# EAGLE library part MAX4642EUA (library analog)
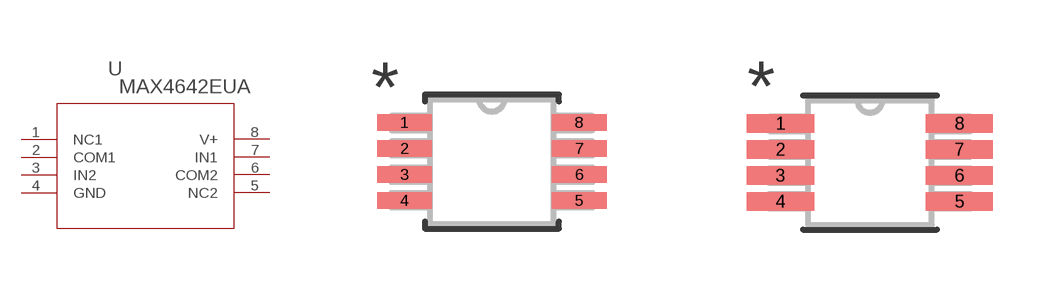
[diagram p1: symbol with the pads of 21-0036K; footprints 21-0036K, 21-0036K-M]

Designator prefix U

## MAX4642EUA (MANUFACTURER_PART_NUMBER: max4642eua; VENDOR: Maxim Integrated Products)  [21-0036K]
1  NC1  pas
2  COM1  pas
3  IN2  in
4  GND  pwr
5  NC2  pas
6  COM2  pas
7  IN1  in
8  V+  pwr

## MAX4642EUA21-0036K-M (MANUFACTURER_PART_NUMBER: max4642eua; VENDOR: Maxim Integrated Products)  [21-0036K-M]
Pads as for 21-0036K

## MAX4642EUA21-0036K-L (MANUFACTURER_PART_NUMBER: max4642eua; VENDOR: Maxim Integrated Products)  [21-0036K-L]
Pads as for 21-0036K

## Footprint 21-0036K (pad centres in mm)
smd 1.372 x 0.406: 1 -2.184,0.975; 2 -2.184,0.325; 3 -2.184,-0.325; 4 -2.184,-0.975; 5 2.184,-0.975; 6 2.184,-0.325; 7 2.184,0.325; 8 2.184,0.975

## Footprint 21-0036K-M (pad centres in mm)
smd 1.676 x 0.457: 1 -2.235,0.975; 2 -2.235,0.325; 3 -2.235,-0.325; 4 -2.235,-0.975; 5 2.235,-0.975; 6 2.235,-0.325; 7 2.235,0.325; 8 2.235,0.975

## Footprint 21-0036K-L (pad centres in mm)
smd 1.067 x 0.356: 1 -2.134,0.975; 2 -2.134,0.325; 3 -2.134,-0.325; 4 -2.134,-0.975; 5 2.134,-0.975; 6 2.134,-0.325; 7 2.134,0.325; 8 2.134,0.975